# Altium footprint library CAP0_1.PcbLib: 1 footprints
Each footprint in its own frame and in the unit in brackets; x right, y up, seen from the top. Pads: shape width x height; smd on the part's side, far side on the other; paste and mask are expansions set on the pad; w line width, h text height; cw(c..) or ccw(c..) is an arc to the next point about the centre after c.
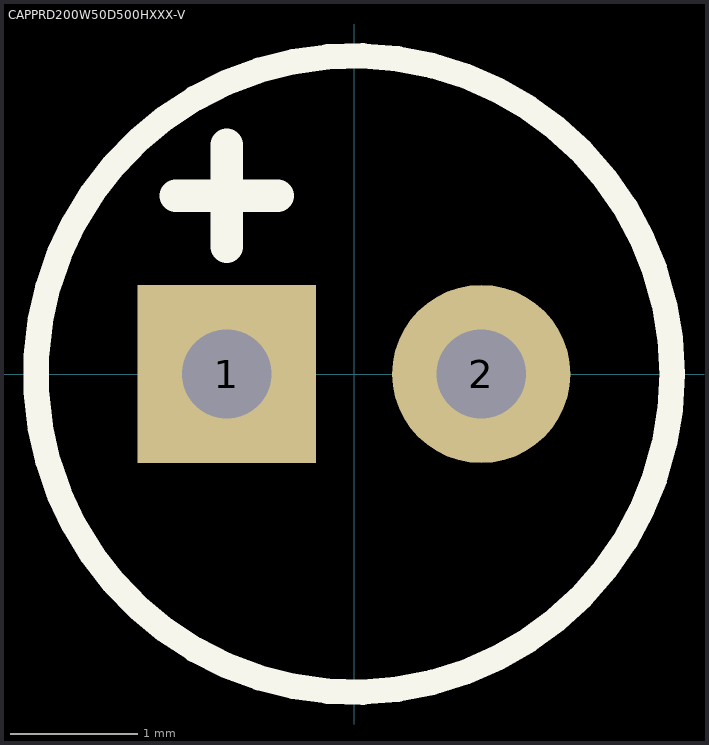
[diagram p0: the footprint, top view; thin cyan lines are the x and y axes]

## CAPPRD200W50D500HXXX-V [mm]
pads (2):
  rect 1.4x1.4 hole 0.7: 1(-1,0)
  round 1.4 hole 0.7: 2(1,0)
Top Overlay:
  circle w0.2: c0,0 r2.5
  lines w0.254: -1.4,1.4 -0.6,1.4 ; -1,1 -1,1.8
3D body "User Library-CapAluRadial_D50H110P20.step": height 11.1, standoff -2.9, extent -2.5,-2.413 2.5,2.586